# Altium schematic symbol library CON_RJ45_1X8_YG.SchLib: 1 symbol
Pins are listed as number, name and electrical type; pins without a type are passive.

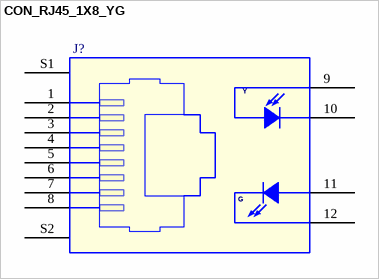
[diagram p0: symbol CON_RJ45_1X8_YG]

## CON_RJ45_1X8_YG
designator J?
CON 8 RJ-45 SHLD RA TH YG LEDS 40MIL SP 47H AU 79L
pins: 1, 2, 3, 4, 5, 6, 7, 8, 9, 10, 11, 12, S1 SHIELD_1, S2 SHIELD_2
text: Y; G